# EAGLE library part TDA1308 (library Audio-Power-amlifier)
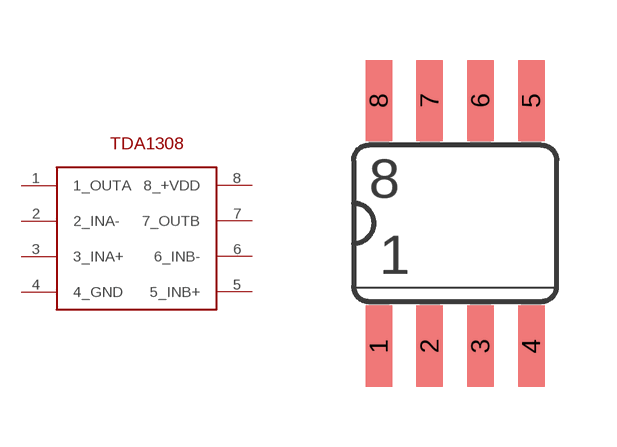
[diagram p20: symbol with the pads of SO8; footprint SO8]

Designator prefix -

## TDA1308SO8  [SO8]
1  1_OUTA
2  2_INA-
3  3_INA+
4  4_GND
5  5_INB+
6  6_INB-
7  7_OUTB
8  8_+VDD

## Footprint SO8 (pad centres in mm)
smd 0.66 x 2.032: 1 -1.905,-3.073; 2 -0.635,-3.073; 3 0.635,-3.073; 4 1.905,-3.073; 5 1.905,3.073; 6 0.635,3.073; 7 -0.635,3.073; 8 -1.905,3.073